# Altium schematic symbol library KF128.SchLib: 15 symbols
Pins are listed as number, name and electrical type; pins without a type are passive.

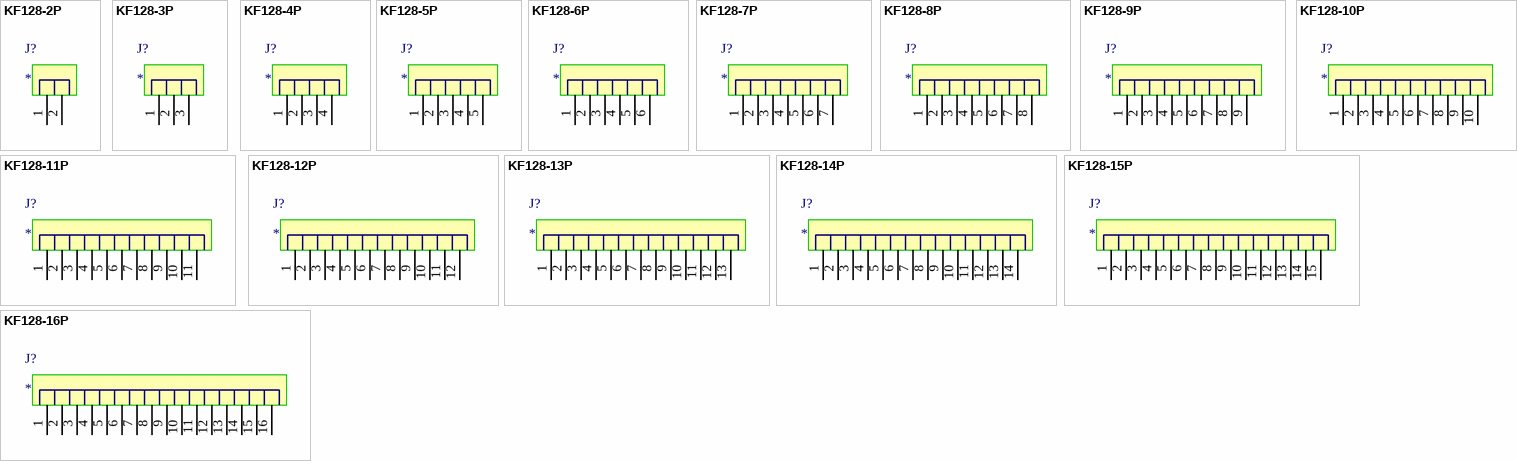
[diagram p0: symbols KF128-2P to KF128-16P]

## KF128-2P
designator J?
footprint KF128-3.81-2P (螺钉式接线端子，脚距3.81mm)
footprint KF128-5.08-2P (螺钉式接线端子，脚距5.08mm)
pins: 1, 2

## KF128-3P
designator J?
footprint KF128-3.81-3P (螺钉式接线端子，脚距3.81mm)
footprint KF128-5.08-3P (螺钉式接线端子，脚距5.08mm)
pins: 1, 2, 3

## KF128-4P
designator J?
footprint KF128-3.81-4P (螺钉式接线端子，脚距3.81mm)
footprint KF128-5.08-4P (螺钉式接线端子，脚距5.08mm)
pins: 1, 2, 3, 4

## KF128-5P
designator J?
footprint KF128-3.81-5P (螺钉式接线端子，脚距3.81mm)
footprint KF128-5.08-5P (螺钉式接线端子，脚距5.08mm)
pins: 1, 2, 3, 4, 5

## KF128-6P
designator J?
footprint KF128-3.81-6P (螺钉式接线端子，脚距3.81mm)
footprint KF128-5.08-6P (螺钉式接线端子，脚距5.08mm)
pins: 1, 2, 3, 4, 5, 6

## KF128-7P
designator J?
footprint KF128-3.81-7P (螺钉式接线端子，脚距3.81mm)
footprint KF128-5.08-7P (螺钉式接线端子，脚距5.08mm)
pins: 1, 2, 3, 4, 5, 6, 7

## KF128-8P
designator J?
footprint KF128-3.81-8P (螺钉式接线端子，脚距3.81mm)
footprint KF128-5.08-8P (螺钉式接线端子，脚距5.08mm)
pins: 1, 2, 3, 4, 5, 6, 7, 8

## KF128-9P
designator J?
footprint KF128-5.08-9P (螺钉式接线端子，脚距5.08mm)
footprint KF128-3.81-9P (螺钉式接线端子，脚距3.81mm)
pins: 1, 2, 3, 4, 5, 6, 7, 8, 9

## KF128-10P
designator J?
footprint KF128-5.08-10P (螺钉式接线端子，脚距5.08mm)
footprint KF128-3.81-10P (螺钉式接线端子，脚距3.81mm)
pins: 1, 2, 3, 4, 5, 6, 7, 8, 9, 10

## KF128-11P
designator J?
footprint KF128-3.81-11P (螺钉式接线端子，脚距3.81mm)
footprint KF128-5.08-11P (螺钉式接线端子，脚距5.08mm)
pins: 1, 2, 3, 4, 5, 6, 7, 8, 9, 10, 11

## KF128-12P
designator J?
footprint KF128-3.81-12P (螺钉式接线端子，脚距3.81mm)
footprint KF128-5.08-12P (螺钉式接线端子，脚距5.08mm)
pins: 1, 2, 3, 4, 5, 6, 7, 8, 9, 10, 11, 12

## KF128-13P
designator J?
footprint KF128-3.81-13P (螺钉式接线端子，脚距3.81mm)
footprint KF128-5.08-13P (螺钉式接线端子，脚距5.08mm)
pins: 1, 2, 3, 4, 5, 6, 7, 8, 9, 10, 11, 12, 13

## KF128-14P
designator J?
footprint KF128-5.08-14P (螺钉式接线端子，脚距5.08mm)
footprint KF128-5.08-14P (螺钉式接线端子，脚距5.08mm)
pins: 1, 2, 3, 4, 5, 6, 7, 8, 9, 10, 11, 12, 13, 14

## KF128-15P
designator J?
footprint KF128-3.81-15P (螺钉式接线端子，脚距3.81mm)
footprint KF128-5.08-15P (螺钉式接线端子，脚距5.08mm)
pins: 1, 2, 3, 4, 5, 6, 7, 8, 9, 10, 11, 12, 13, 14, 15

## KF128-16P
designator J?
footprint KF128-3.81-16P (螺钉式接线端子，脚距3.81mm)
footprint KF128-5.08-16P (螺钉式接线端子，脚距5.08mm)
pins: 1, 2, 3, 4, 5, 6, 7, 8, 9, 10, 11, 12, 13, 14, 15, 16